# Altium schematic symbol library TSW-108-07-G-D.SchLib: 1 symbol
Pins are listed as number, name and electrical type; pins without a type are passive.

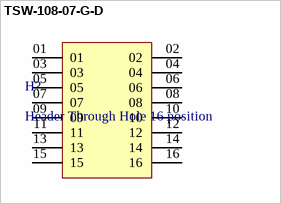
[diagram p0: symbol TSW-108-07-G-D]

## TSW-108-07-G-D
designator H?, comment Header Through Hole 16 position
Connector Header Through Hole 16 position 0.100" (2.54mm); Manufacturer: Samtec; Manufacturer Part Number: TSW-108-07-G-D; Manufacturer Lifecycle Status: PRODUCTION; Connector Type: Male Pin; Gender: Male; Max Current Rating: 7.6A; Max Voltage Rating (AC): 550V; Number of Contacts: 16; Supplier: DigiKey; Supplier Part Number: 612-TSW-108-07-G-D-ND; RoHS: Compliant; Category: Headers and Wire Housings; Stock: 1851; Pricing: 1=1.34, 10=1.135, 100=0.9644, 500=0.8608, 1000=0.8197, 5000=0.73175, 10000=0.7275 (USD); Color: Black; Contact Material: Bronze; Contact Mating Length: 5.842mm; Contact Plating: Gold; Depth: 5.08mm; Housing Color: Black; Housing Material: Polyester; Lead Free: Lead Free; Lead Pitch: 2.54mm; Lifecycle Status: Production; Max Operating Temperature: 125°C; Min Operating Temperature: -55°C; Mounting Technology: Through Hole; Pins: 16; Number of Positions: 16; Number of Rows: 2; Orientation: Straight; Packaging: Bulk; Pitch: 2.54mm; Radiation Hardening: No; REACH SVHC: Unaffected; Row Spacing: 2.54mm; Termination: Solder; Width: 5.08mm; ComponentLink1URL: https://datasheet.octopart.com:443/TSW-108-07-G-D-Samtec-datasheet-97325576.pdf?src-supplier=Sager+Electronics; ComponentLink1Description: https://datasheet.octopart.com:443/TSW-108-07-G-D-Samtec-datasheet-97325576.pdf?src-supplier=Sager+Electronics; ComponentLink2URL: https://datasheet.octopart.com:443/TSW-108-07-G-D-Samtec-datasheet-151455181.pdf?src-supplier=Sager+Electronics; ComponentLink2Description: https://datasheet.octopart.com:443/TSW-108-07-G-D-Samtec-datasheet-151455181.pdf?src-supplier=Sager+Electronics; ComponentLink3URL: https://sigma.octopart.com:443/97325577/technical_drawing/Samtec-TSW-108-07-G-D.pdf?src-supplier=Samtec; ComponentLink3Description: https://sigma.octopart.com:443/97325577/technical_drawing/Samtec-TSW-108-07-G-D.pdf?src-supplier=Samtec; ComponentLink4URL: https://datasheet.octopart.com:443/TSW-108-07-G-D-Samtec-datasheet-63880566.pdf?src-supplier=Newark; ComponentLink4Description: https://datasheet.octopart.com:443/TSW-108-07-G-D-Samtec-datasheet-63880566.pdf?src-supplier=Newark; ComponentLink5URL: https://datasheet.octopart.com:443/TSW-108-07-G-D-Samtec-datasheet-11047283.pdf?src-supplier=Newark; ComponentLink5Description: https://datasheet.octopart.com:443/TSW-108-07-G-D-Samtec-datasheet-11047283.pdf?src-supplier=Newark; ComponentLink6URL: https://datasheet.octopart.com:443/TSW-108-07-G-D-Samtec-datasheet-136646178.pdf?src-supplier=Master+Electronics; ComponentLink6Description: https://datasheet.octopart.com:443/TSW-108-07-G-D-Samtec-datasheet-136646178.pdf?src-supplier=Master+Electronics; ComponentLink7URL: https://datasheet.octopart.com:443/TSW-108-07-G-D-Samtec-datasheet-116615235.pdf?src-supplier=Master+Electronics; ComponentLink7Description: https://datasheet.octopart.com:443/TSW-108-07-G-D-Samtec-datasheet-116615235.pdf?src-supplier=Master+Electronics; ComponentLink8URL: https://datasheet.octopart.com:443/TSW-108-07-G-D-Samtec-datasheet-62107121.pdf?src-supplier=Farnell; ComponentLink8Description: https://datasheet.octopart.com:443/TSW-108-07-G-D-Samtec-datasheet-62107121.pdf?src-supplier=Farnell; ComponentLink9URL: https://datasheet.octopart.com:443/TSW-108-07-G-D-Samtec-datasheet-182948906.pdf?src-supplier=JRH+Electronics; ComponentLink9Description: https://datasheet.octopart.com:443/TSW-108-07-G-D-Samtec-datasheet-182948906.pdf?src-supplier=JRH+Electronics; ComponentLink10URL: https://datasheet.octopart.com:443/TSW-108-07-G-D-Samtec-datasheet-160657603.pdf?src-supplier=Toby+Electronics; ComponentLink10Description: https://datasheet.octopart.com:443/TSW-108-07-G-D-Samtec-datasheet-160657603.pdf?src-supplier=Toby+Electronics; ComponentLink11URL: https://datasheet.octopart.com:443/TSW-108-07-G-D-Samtec-datasheet-116539033.pdf?src-supplier=Toby+Electronics; ComponentLink11Description: https://datasheet.octopart.com:443/TSW-108-07-G-D-Samtec-datasheet-116539033.pdf?src-supplier=Toby+Electronics; ComponentLink12URL: https://datasheet.octopart.com:443/TSW-108-07-G-D-Samtec-datasheet-116536310.pdf?src-supplier=Toby+Electronics; ComponentLink12Description: https://datasheet.octopart.com:443/TSW-108-07-G-D-Samtec-datasheet-116536310.pdf?src-supplier=Toby+Electronics; ComponentLink13URL: https://datasheet.octopart.com/TSW-108-07-G-D-Samtec-datasheet-86818365.pdf; ComponentLink13Description: https://datasheet.octopart.com/TSW-108-07-G-D-Samtec-datasheet-86818365.pdf; ComponentLink14URL: https://datasheet.octopart.com:443/TSW-108-07-G-D-Samtec-datasheet-5313500.pdf?src-supplier=_legacy+Avnet; ComponentLink14Description: https://datasheet.octopart.com:443/TSW-108-07-G-D-Samtec-datasheet-5313500.pdf?src-supplier=_legacy+Avnet
footprint SAMTEC_TSW-108-07-G-D
footprint SAMTEC_TSW-108-07-G-D
pins: 01, 02, 03, 04, 05, 06, 07, 08, 09, 10, 11, 12, 13, 14, 15, 16